# Altium schematic symbol library LTST-C170KGKT.SchLib: 1 symbol
Pins are listed as number, name and electrical type; pins without a type are passive.

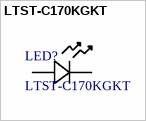
[diagram p0: symbol LTST-C170KGKT]

## LTST-C170KGKT
designator LED?
Description; Manufacturer_Name: LITE-ON; Copyright: Copyright (C) 2025 Ultra Librarian. All rights reserved.; Manufacturer_Part_Number: LTST-C170KGKT
footprint LED_LTST-C170KGKT_LTO
pins: 1, 2